# Altium schematic symbol library CAM-M8C-0.SchLib: 1 symbol
Pins are listed as number, name and electrical type; pins without a type are passive.

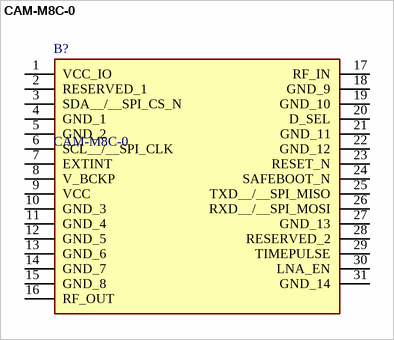
[diagram p0: symbol CAM-M8C-0]

## CAM-M8C-0
designator B?
RF RCVR GNSS/GPS 1.575GHZ MODULE; Manufacturer_Name: U-Blox; Geometry.Height: 2.3mm; Manufacturer_Part_Number: CAM-M8C-0; Mouser Part Number: 377-CAM-M8C-0; Mouser Price/Stock: https://www.mouser.co.uk/ProductDetail/u-blox/CAM-M8C-0?qs=vEM7xhTegWh0Qdx4vzEerw%3D%3D; Arrow Part Number: *; Arrow Price/Stock: *; Datasheet Link: https://www.mouser.cn/ProductDetail/u-blox/CAM-M8C-0?qs=%2Fha2pyFadui7ZmsGRBrJBt%252BuEsnOsR2xV%252BdWTisaE9ttYO2aX8ol3A%3D%3D
footprint CAMM8C0
pins: 1 VCC_IO, 2 RESERVED_1, 3 SDA__/__SPI_CS_N, 4 GND_1, 5 GND_2, 6 SCL__/__SPI_CLK, 7 EXTINT, 8 V_BCKP, 9 VCC, 10 GND_3, 11 GND_4, 12 GND_5, 13 GND_6, 14 GND_7, 15 GND_8, 16 RF_OUT, 17 RF_IN, 18 GND_9, 19 GND_10, 20 D_SEL, 21 GND_11, 22 GND_12, 23 RESET_N, 24 SAFEBOOT_N, 25 TXD__/__SPI_MISO, 26 RXD__/__SPI_MOSI, 27 GND_13, 28 RESERVED_2, 29 TIMEPULSE, 30 LNA_EN, 31 GND_14